# EAGLE library part 15EDGRC-3.81-23P (library con-degson)
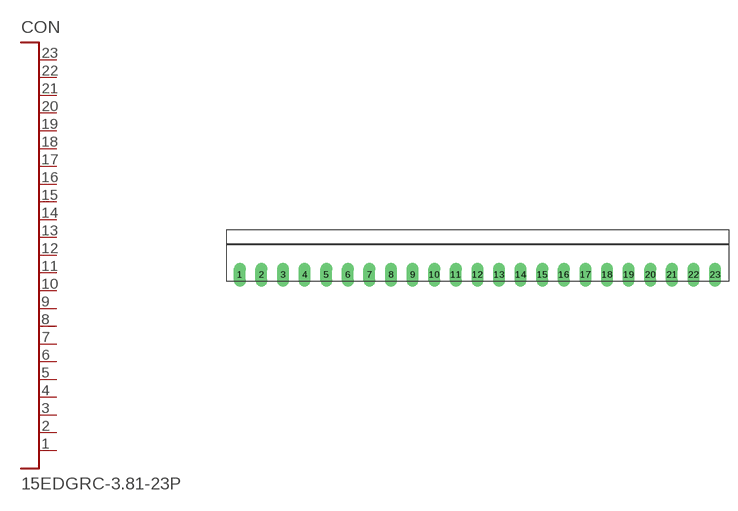
[diagram p40: symbol with the pads of 15EDGRC-3.81-23P; footprint 15EDGRC-3.81-23P]

Designator prefix CON

## 15EDGRC-3.81-23P  [15EDGRC-3.81-23P]
1  P$1
2  P$2
3  P$3
4  P$4
5  P$5
6  P$6
7  P$7
8  P$8
9  P$9
10  P$10
11  P$11
12  P$12
13  P$13
14  P$14
15  P$15
16  P$16
17  P$17
18  P$18
19  P$19
20  P$20
21  P$21
22  P$22
23  P$23

## Footprint 15EDGRC-3.81-23P (pad centres in mm)
drill 1.4 long: 1 -41.91,0; 2 -38.1,0; 3 -34.29,0; 4 -30.48,0; 5 -26.67,0; 6 -22.86,0; 7 -19.05,0; 8 -15.24,0; 9 -11.43,0; 10 -7.62,0; 11 -3.81,0; 12 0,0; 13 3.81,0; 14 7.62,0; 15 11.43,0; 16 15.24,0; 17 19.05,0; 18 22.86,0; 19 26.67,0; 20 30.48,0; 21 34.29,0; 22 38.1,0; 23 41.91,0